# Altium schematic symbol library LM5017MRXNOPB.SchLib: 2 symbols
Pins are listed as number, name and electrical type; pins without a type are passive.

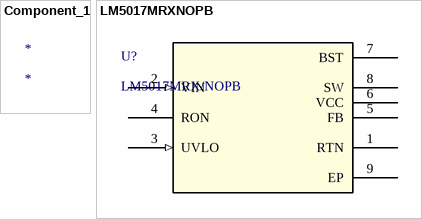
[diagram p0: symbols Component_1 to LM5017MRXNOPB]

## Component_1
designator *

## LM5017MRXNOPB
designator U?, comment LM5017MRX/NOPB
No Description Available; Mfr_Name: Texas Instruments; Copyright: Copyright (C) 2024 Ultra Librarian. All rights reserved.; Manufacturer_Part_Number: LM5017MRX/NOPB; RefDes: RefDes; Type: DEV
footprint DDA8_3P1X2P41; pin to pad 6>none
pins: 1 RTN (power), 2 VIN (in), 3 UVLO (in), 4 RON, 5 FB, 6 VCC (power), 7 BST, 8 SW, 9 EP